# Altium schematic symbol library S7061-42R.SchLib: 1 symbol
Pins are listed as number, name and electrical type; pins without a type are passive.

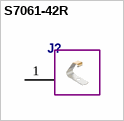
[diagram p0: symbol S7061-42R]

## S7061-42R
designator J?  (value not drawn)
pins: 1